# EAGLE library part CD74HC4067M (library magneticimagertile)
TI CD74HC4067M 16-Channel Analog Multiplexer/Demultiplexer
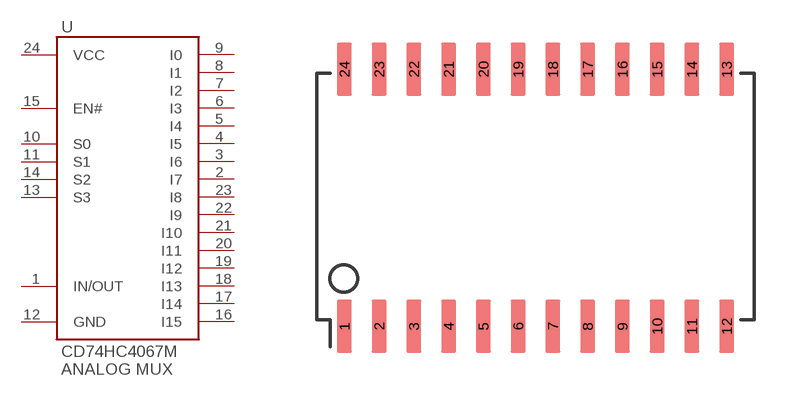
[diagram p0: symbol with the pads of SOIC-24; footprint SOIC-24]

Designator prefix -

## CD74HC4067M  [SOIC-24]
1  IN/OUT
2  I7
3  I6
4  I5
5  I4
6  I3
7  I2
8  I1
9  I0
10  S0
11  S1
12  GND
13  S3
14  S2
15  EN#
16  I15
17  I14
18  I13
19  I12
20  I11
21  I10
22  I9
23  I8
24  VCC

## Footprint SOIC-24 (pad centres in mm)
smd 0.55 x 1.95: 1 -6.985,-4.745; 2 -5.715,-4.745; 3 -4.445,-4.745; 4 -3.175,-4.745; 5 -1.905,-4.745; 6 -0.635,-4.745; 7 0.635,-4.745; 8 1.905,-4.745; 9 3.175,-4.745; 10 4.445,-4.745; 11 5.715,-4.745; 12 6.985,-4.745; 13 6.985,4.645; 14 5.715,4.645; 15 4.445,4.645; 16 3.175,4.645; 17 1.905,4.645; 18 0.635,4.645; 19 -0.635,4.645; 20 -1.905,4.645; 21 -3.175,4.645; 22 -4.445,4.645; 23 -5.715,4.645; 24 -6.985,4.645